# Altium footprint library PcbLib1.PcbLib: 16 footprints
Each footprint in its own frame and in the unit in brackets; x right, y up, seen from the top. Pads: shape width x height; smd on the part's side, far side on the other; paste and mask are expansions set on the pad; w line width, h text height; cw(c..) or ccw(c..) is an arc to the next point about the centre after c.
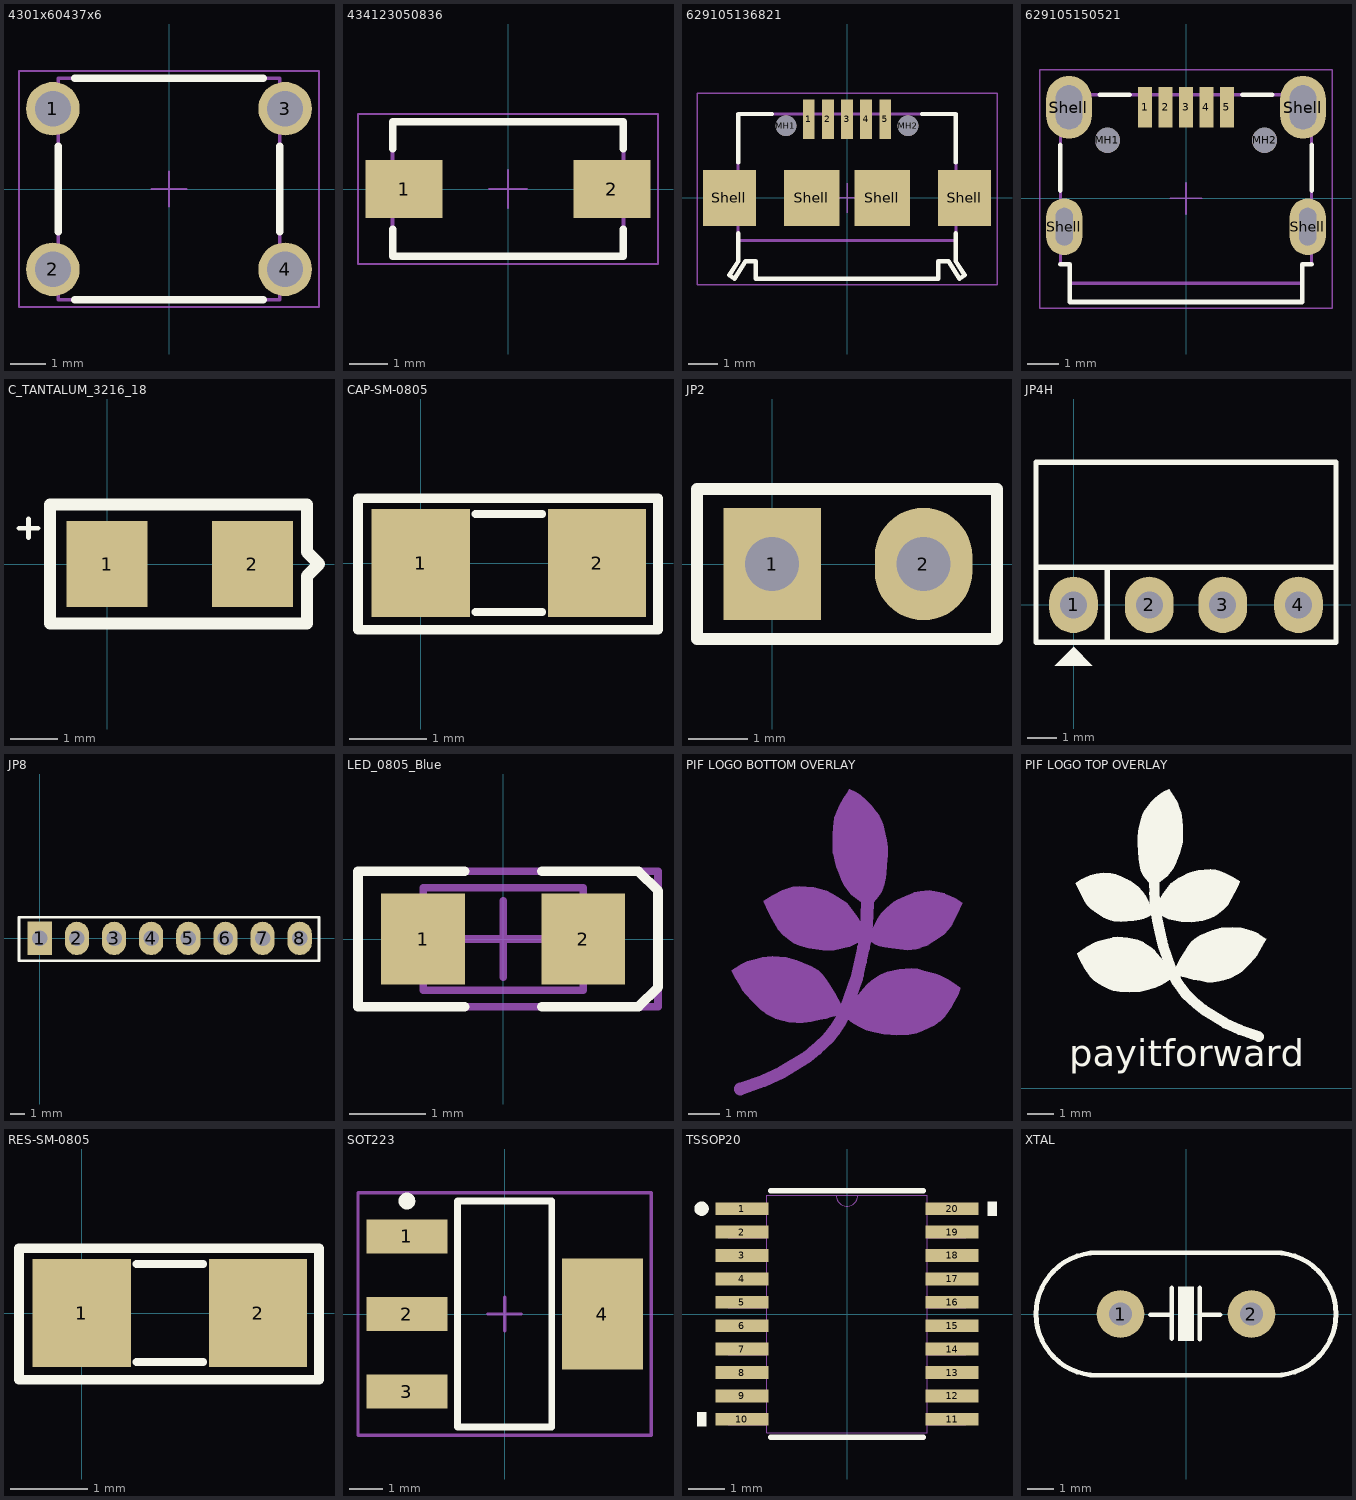
[diagram p0: the footprints below, top view; thin cyan lines are the x and y axes]

## 4301x60437x6 [mm] "6x6mm Tact Switch, THT version"
height 4.3
pads (4):
  round 1.5 hole 1: 1(-3.25,2.25) 2(-3.25,-2.25) 3(3.25,2.25) 4(3.25,-2.25)
Top Overlay:
  lines w0.2: -3.1,-1.2 -3.1,1.2 ; -2.65,-3.1 2.65,-3.1 ; -2.65,3.1 2.65,3.1 ; 3.1,-1.2 3.1,1.2
Mechanical 13:
  lines w0.1: -3.1,-3.1 -3.1,3.1 3.1,3.1 3.1,-3.1 -3.1,-3.1
Mechanical 15:
  lines w0.05: -0.5,0 0.5,0 ; 0,-0.5 0,0.5 ; -4.2,-3.3 4.2,-3.3 4.2,3.3 -4.2,3.3 -4.2,-3.3
3D body "4301x60437x6.stp": height 4.35, standoff -3.45, extent -3.947,-3.1 3.947,3.1

## 434123050836 [mm] "SMD Tact Switch, body 6x3.5mm"
height 5
pads (2):
  rect 2x1.5 smd: 1(-2.7,0) 2(2.7,0)
Top Overlay:
  lines w0.2: -3,-1.05 -3,-1.75 3,-1.75 3,-1.05 ; -3,1.05 -3,1.75 3,1.75 3,1.05
Mechanical 11:
  lines w0.1: -3,-1.75 3,-1.75 3,1.75 -3,1.75 -3,-1.75
  text ".Designator" at -1.75,-0.75 h1.5
Mechanical 13:
  lines w0.1: -3,-1.75 -3,1.75 3,1.75 3,-1.75 -3,-1.75
Mechanical 15:
  lines w0.05: -0.5,0 0.5,0 ; 0,-0.5 0,0.5 ; -3.9,-1.95 -3.9,1.95 3.9,1.95 3.9,-1.95 -3.9,-1.95
3D body "4341x30508x6.stp": height 5, standoff 0, extent -3.649,-1.75 3.65,1.75

## 629105136821 [mm] "Micro USB 2.0 SMT Type B Horizontal 5 Contacts"
height 3
pads (11):
  rect 0.4x1.35 smd: 1(-1.3,2.675) 2(-0.65,2.675) 3(0,2.675) 4(0.65,2.675) 5(1.3,2.675)
  round 0.7 hole 0.7 unplated: MH1(-2.075,2.45) MH2(2.075,2.45)
  rect 1.8x1.9 smd: Shell(-4,0) Shell(4,0)
  rect 1.9x1.9 smd: Shell(-1.2,0) Shell(1.2,0)
Top Overlay:
  lines w0.15: -3.7,-1.2 -3.7,-2.15 -4,-2.625 -3.825,-2.75 -3.45,-2.15 -3.1,-2.15 -3.1,-2.75 3.1,-2.75 3.1,-2.15 3.45,-2.15 3.825,-2.75 4,-2.625 3.7,-2.15 3.7,-1.2 ; -3.7,1.2 -3.7,2.85 -2.55,2.85 ; 2.55,2.85 3.7,2.85 3.7,1.2
Mechanical 2:
  lines w0.1: -3.7,-1.45 3.7,-1.45
  text "PCB Edge" at -1.2,-2.1 h0.41
Mechanical 11:
  lines w0.1: -1.425,2.85 -1.425,3.15 -1.175,3.15 -1.175,2.85 ; -0.775,2.85 -0.775,3.15 -0.525,3.15 -0.525,2.85 ; -0.125,2.85 -0.125,3.15 0.125,3.15 0.125,2.85 ; 0.525,2.85 0.525,3.15 0.775,3.15 0.775,2.85 ; 1.175,2.85 1.175,3.15 1.425,3.15 1.425,2.85 ; -4,-2.625 -3.825,-2.75 -3.45,-2.15 -3.1,-2.15 -3.1,-2.75 3.1,-2.75 3.1,-2.15 3.45,-2.15 3.825,-2.75 4,-2.625 3.7,-2.15 3.7,2.85 -3.7,2.85 -3.7,-2.15 -4,-2.625
  text ".Designator" at -1.75,-0.75 h1.5
Mechanical 13:
  lines w0.1: -1.425,2.85 -1.425,3.15 -1.175,3.15 -1.175,2.85 ; -0.775,2.85 -0.775,3.15 -0.525,3.15 -0.525,2.85 ; -0.125,2.85 -0.125,3.15 0.125,3.15 0.125,2.85 ; 0.525,2.85 0.525,3.15 0.775,3.15 0.775,2.85 ; 1.175,2.85 1.175,3.15 1.425,3.15 1.425,2.85 ; -4,-2.625 -3.7,-2.15 -3.7,2.85 3.7,2.85 3.7,-2.15 4,-2.625 3.825,-2.75 3.45,-2.15 3.1,-2.15 3.1,-2.75 -3.1,-2.75 -3.1,-2.15 -3.45,-2.15 -3.825,-2.75 -4,-2.625
Mechanical 15:
  lines w0.05: -0.5,0 0.5,0 ; 0,-0.5 0,0.5 ; -5.1,-2.95 -5.1,3.55 5.1,3.55 5.1,-2.95 -5.1,-2.95
3D body "629105136821.stp": height 2.69, standoff -0.61, extent -4,-2.73 4,3.173

## 629105150521 [mm] "Micro USB 2.0 SMT Type B Horizontal 5 Contacts High Current"
height 2.66
pads (11):
  rect 0.45x1.3 smd: 1(-1.3,2.9) 2(-0.65,2.9) 3(0,2.9) 4(0.65,2.9) 5(1.3,2.9)
  round 0.8 hole 0.8 unplated: MH1(-2.5,1.85) MH2(2.5,1.85)
  oval 1.15x1.8 hole 0.55 slot 1.2 at 90 deg: Shell(-3.875,-0.9) Shell(3.875,-0.9)
  oval 1.45x2 hole 0.85 slot 1.4 at 90 deg: Shell(-3.725,2.9) Shell(3.725,2.9)
Top Overlay:
  lines w0.15: -4,-2.1 -3.7,-2.1 -3.7,-3.3 3.7,-3.3 3.7,-2.1 4,-2.1 ; -4,0.25 -4,1.7 ; -2.75,3.3 -1.8,3.3 ; 1.8,3.3 2.75,3.3 ; 4,0.25 4,1.7
Mechanical 2:
  lines w0.1: -3.7,-2.7 3.7,-2.7
  text "PCB Edge" at -1.3,-3.3 h0.41
Mechanical 11:
  lines w0.1: -4,-2.1 -4,3.3 4,3.3 4,-2.1 3.7,-2.1 3.7,-3.3 -3.7,-3.3 -3.7,-2.1 -4,-2.1
  text ".Designator" at -1.75,-0.75 h1.5
Mechanical 13:
  lines w0.1: -4,-2.1 -3.7,-2.1 -3.7,-3.3 3.7,-3.3 3.7,-2.1 4,-2.1 4,3.3 -4,3.3 -4,-2.1
Mechanical 15:
  lines w0.05: -0.5,0 0.5,0 ; 0,-0.5 0,0.5 ; -4.65,-3.5 -4.65,4.1 4.65,4.1 4.65,-3.5 -4.65,-3.5
3D body "629105150521.stp": height 2.75, standoff -1.77, extent -4,-3.3 4,3.303

## C_TANTALUM_3216_18 [mm]
pads (2):
  rect 1.7x1.8 smd: 1(0,0) 2(3.05,0)
Top Overlay:
  lines w0.1: -1.85,0.75 -1.45,0.75 ; -1.65,0.55 -1.65,0.95
  lines w0.254: 4.2,0.25 4.2,1.25 -1.2,1.25 -1.2,-1.25 4.2,-1.25 4.2,-0.25 4.45,0 ; 4.2,0.25 4.2,0.25 ; 4.2,0.25 4.45,0 ; 4.45,0 4.45,0
3D body "User Library-CAP_TANT_3216-18_A_case.step": height 1.8, standoff 0, extent -0.15,-0.9 3.25,0.9

## CAP-SM-0805 [mil]
pads (2):
  rect 50x55 smd: 1(0,0) 2(90,0)
Top Overlay:
  lines w4: 28,-25 62,-25 ; 28,25 62,25
  lines w5: -32,-34 -32,33 121,33 121,-34 -32,-34
3D body "0805 SMD Capacitor.step": height 31.39, standoff 0.6, extent 5.64,-24.6 84.37,24.61

## JP2 [mil]
pads (2):
  rect 65x75 hole 36: 1(0,0)
  oval 65x75 hole 36: 2(101,0)
Top Overlay:
  lines w8: -50,-50 0,-50 150,-50 150,50 106.25,50 18.75,50 -50,50 -50,-50
3D body "JP2.stp": height 323.44, standoff -117.51, extent -48.03,-50 148.03,48.43

## JP4H [mil]
pads (4):
  oval 65x75 hole 36: 1(0,0) 2(101,0) 3(199,0) 4(300,0)
Top Overlay:
  region: 0,-56 -25,-81 25,-81
  lines w7: 45,-50 45,49 ; -50,50 -50,190 350,190 350,50 ; -50,50 -50,-50 350,-50 350,50 ; -50,50 350,50
3D body "JP4H.stp": height 99.03, standoff -93.89, extent -46.06,-14.96 346.07,423.63

## JP8 [mil] "JP8"
height 200
pads (8):
  rect 65x90 hole 42: 1(0,0)
  oval 65x90 hole 42: 2(100,0) 3(200,0) 4(300,0) 5(400,0) 6(500,0) 7(600,0) 8(700,0)
Top Overlay:
  lines w7: -56,-60 -56,57 752,57 752,-60 -56,-60
3D body "JP1-8.stp": height 323.43, standoff -117.51, extent -48.03,-50 748.03,48.43

## LED_0805_Blue [mm] "Chip LED, 2-Leads, Body 2.0x1.3mm, IPC Medium Density"
height 0.8
pads (2):
  rect 1.1x1.2 smd: 1(-1.05,0) 2(1.05,0)
Top Overlay:
  lines w0.127: -0.508,-0.889 -1.905,-0.889 -1.905,0.889 -0.508,0.889 ; 0.508,-0.889 1.778,-0.889 2.032,-0.635 2.032,0.635 1.778,0.889 0.508,0.889
Mechanical 13:
  lines w0.1: -1.05,-0.675 -1.05,0.675 1.05,0.675 1.05,-0.675 -1.05,-0.675
Mechanical 15:
  lines w0.1: -0.5,0 0.5,0 ; 0,-0.5 0,0.5 ; -1.905,-0.889 -1.905,0.889 2.032,0.889 2.032,-0.889 -1.905,-0.889
3D body "WL-SMCW_0805_LED.stp": height 0.68, standoff -0.02, extent -1,-0.625 1,0.625

## PIF LOGO BOTTOM OVERLAY [mm]
Bottom Overlay:
  drawing of 22 lines, arcs and shapes, not listed
  text "payitforward" at 10.541,0.381 h1.78

## PIF LOGO TOP OVERLAY [mm]
Top Overlay:
  drawing of 22 lines, arcs and shapes, not listed
  text "payitforward" at 2.54,0.508 h1.78

## RES-SM-0805 [mil]
pads (2):
  rect 50x55 smd: 1(0,0) 2(90,0)
Top Overlay:
  lines w4: 28,-25 62,-25 ; 28,25 62,25
  lines w5: -32,-34 -32,33 121,33 121,-34 -32,-34
3D body "SW3dPS-0805 SMD Resistor.STEP": height 31.39, standoff 0.6, extent 5.64,-24.6 84.38,24.61

## SOT223 [mm] "SOT223, 4-Leads, Body 6.5x3.5mm, Pitch 2.3mm, Lead Span 7mm, IPC Medium Density"
height 1.8
pads (4):
  rect 2.4x1 smd: 1(-2.9,2.3) 2(-2.9,0) 3(-2.9,-2.3)
  rect 2.4x3.3 smd: 4(2.9,0)
Top Overlay:
  circle w0.25: c-2.9,3.35 r0.125
  lines w0.2: -1.4,-3.35 -1.4,3.35 1.4,3.35 1.4,-3.35 -1.4,-3.35
Mechanical 15:
  lines w0.1: -0.5,0 0.5,0 ; 0,-0.5 0,0.5 ; -4.35,-3.6 -4.35,3.6 4.35,3.6 4.35,-3.6 -4.35,-3.6
3D body "SW3dPS-Regulator.STEP": height 1.72, standoff 0.02, extent -3.395,-3.274 3.496,3.226

## TSSOP20 [mil]
pads (20):
  rect 58x14 smd paste+0 mask+0: 1(-115,115.16) 2(-115,89.57) 3(-115,63.98) 4(-115,38.39) 5(-115,12.8) 6(-115,-12.8) 7(-115,-38.39) 8(-115,-63.98) 9(-115,-89.57) 10(-115,-115.16) 11(115,-115.16) 12(115,-89.57) 13(115,-63.98) 14(115,-38.39) 15(115,-12.8) 16(115,12.8) 17(115,38.39) 18(115,63.98) 19(115,89.57) 20(115,115.16)
Top Overlay:
  circle w7.87: c-159,115.16 r3.94
  region: -154,-107.66 -164,-107.66 -164,-122.66 -154,-122.66
  region: 154,122.66 164,122.66 164,107.66 154,107.66
  lines w6: -83.42,-135 83.42,-135 ; -83.42,135 83.42,135
Mechanical 13:
  lines w0: -12,130 ccw(c0,130) 12,130
  lines w1: -130,-121.16 -130,-109.16 -88,-109.16 -88,-121.16 -130,-121.16 ; -130,-95.57 -130,-83.57 -88,-83.57 -88,-95.57 -130,-95.57 ; -130,-69.98 -130,-57.98 -88,-57.98 -88,-69.98 -130,-69.98 ; -130,-44.39 -130,-32.39 -88,-32.39 -88,-44.39 -130,-44.39 ; -130,-18.8 -130,-6.8 -88,-6.8 -88,-18.8 -130,-18.8 ; -130,6.8 -130,18.8 -88,18.8 -88,6.8 -130,6.8 ; -130,32.39 -130,44.39 -88,44.39 -88,32.39 -130,32.39 ; -130,57.98 -130,69.98 -88,69.98 -88,57.98 -130,57.98 ; -130,83.57 -130,95.57 -88,95.57 -88,83.57 -130,83.57 ; -130,109.16 -130,121.16 -88,121.16 -88,109.16 -130,109.16 ; -88,-130 88,-130 88,130 -88,130 -88,-130 ; 88,-121.16 88,-109.16 130,-109.16 130,-121.16 88,-121.16 ; 88,-95.57 88,-83.57 130,-83.57 130,-95.57 88,-95.57 ; 88,-69.98 88,-57.98 130,-57.98 130,-69.98 88,-69.98 ; 88,-44.39 88,-32.39 130,-32.39 130,-44.39 88,-44.39 ; 88,-18.8 88,-6.8 130,-6.8 130,-18.8 88,-18.8 ; 88,6.8 88,18.8 130,18.8 130,6.8 88,6.8 ; 88,32.39 88,44.39 130,44.39 130,32.39 88,32.39 ; 88,57.98 88,69.98 130,69.98 130,57.98 88,57.98 ; 88,83.57 88,95.57 130,95.57 130,83.57 88,83.57 ; 88,109.16 88,121.16 130,121.16 130,109.16 88,109.16
  text "*" at -85.5,77 h50
3D body "TSSOP20.step": height 47.09, standoff 0, extent -130,-130 130,130

## XTAL [mil] "Footpin for Crystal 2 pin"
pads (2):
  round 70 hole 34: 1(-96.06,0) 2(96.06,0)
Top Overlay:
  region: 11.5,40 11.5,-39 -11.5,-39 -11.5,40
  lines w7: -52,-1 -21,-1 ; -21,-36 -21,38 ; 20,-37 20,38 ; 20,-1 50,-1 ; -130,-90 cw(c-130,0) -130,90 130,90 cw(c130,0) 130,-90 -130,-90
3D body "User Library-HC49S-1.STEP": height 141.73, standoff -118.11, extent -216.14,-88.41 216.14,88.41